# Altium schematic symbol library SCH - ARM CORTEX - STM STM8S105K4Bx.SchLib: 1 symbol
Pins are listed as number, name and electrical type; pins without a type are passive.

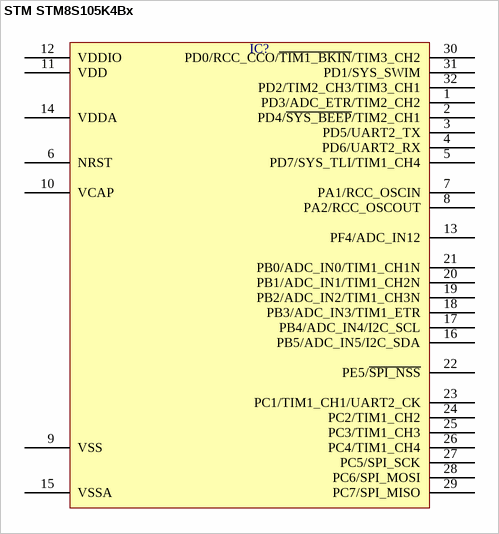
[diagram p0: symbol STM STM8S105K4Bx]

## STM STM8S105K4Bx
designator IC?  (value not drawn)
pins: 1 PD3/ADC_ETR/TIM2_CH2, 2 PD4/~{SYS_BEEP}/TIM2_CH1, 3 PD5/UART2_TX, 4 PD6/UART2_RX, 5 PD7/SYS_TLI/TIM1_CH4, 6 NRST, 7 PA1/RCC_OSCIN, 8 PA2/RCC_OSCOUT, 9 VSS, 10 VCAP, 11 VDD, 12 VDDIO, 13 PF4/ADC_IN12, 14 VDDA, 15 VSSA, 16 PB5/ADC_IN5/I2C_SDA, 17 PB4/ADC_IN4/I2C_SCL, 18 PB3/ADC_IN3/TIM1_ETR, 19 PB2/ADC_IN2/TIM1_CH3N, 20 PB1/ADC_IN1/TIM1_CH2N, 21 PB0/ADC_IN0/TIM1_CH1N, 22 PE5/~{SPI_NSS}, 23 PC1/TIM1_CH1/UART2_CK, 24 PC2/TIM1_CH2, 25 PC3/TIM1_CH3, 26 PC4/TIM1_CH4, 27 PC5/SPI_SCK, 28 PC6/SPI_MOSI, 29 PC7/SPI_MISO, 30 PD0/RCC_CCO/~{TIM1_BKIN}/TIM3_CH2, 31 PD1/SYS_SWIM, 32 PD2/TIM2_CH3/TIM3_CH1